# Altium footprint library ESP_helper.PcbLib: 16 footprints
Each footprint in its own frame and in the unit in brackets; x right, y up, seen from the top. Pads: shape width x height; smd on the part's side, far side on the other; paste and mask are expansions set on the pad; w line width, h text height; cw(c..) or ccw(c..) is an arc to the next point about the centre after c.
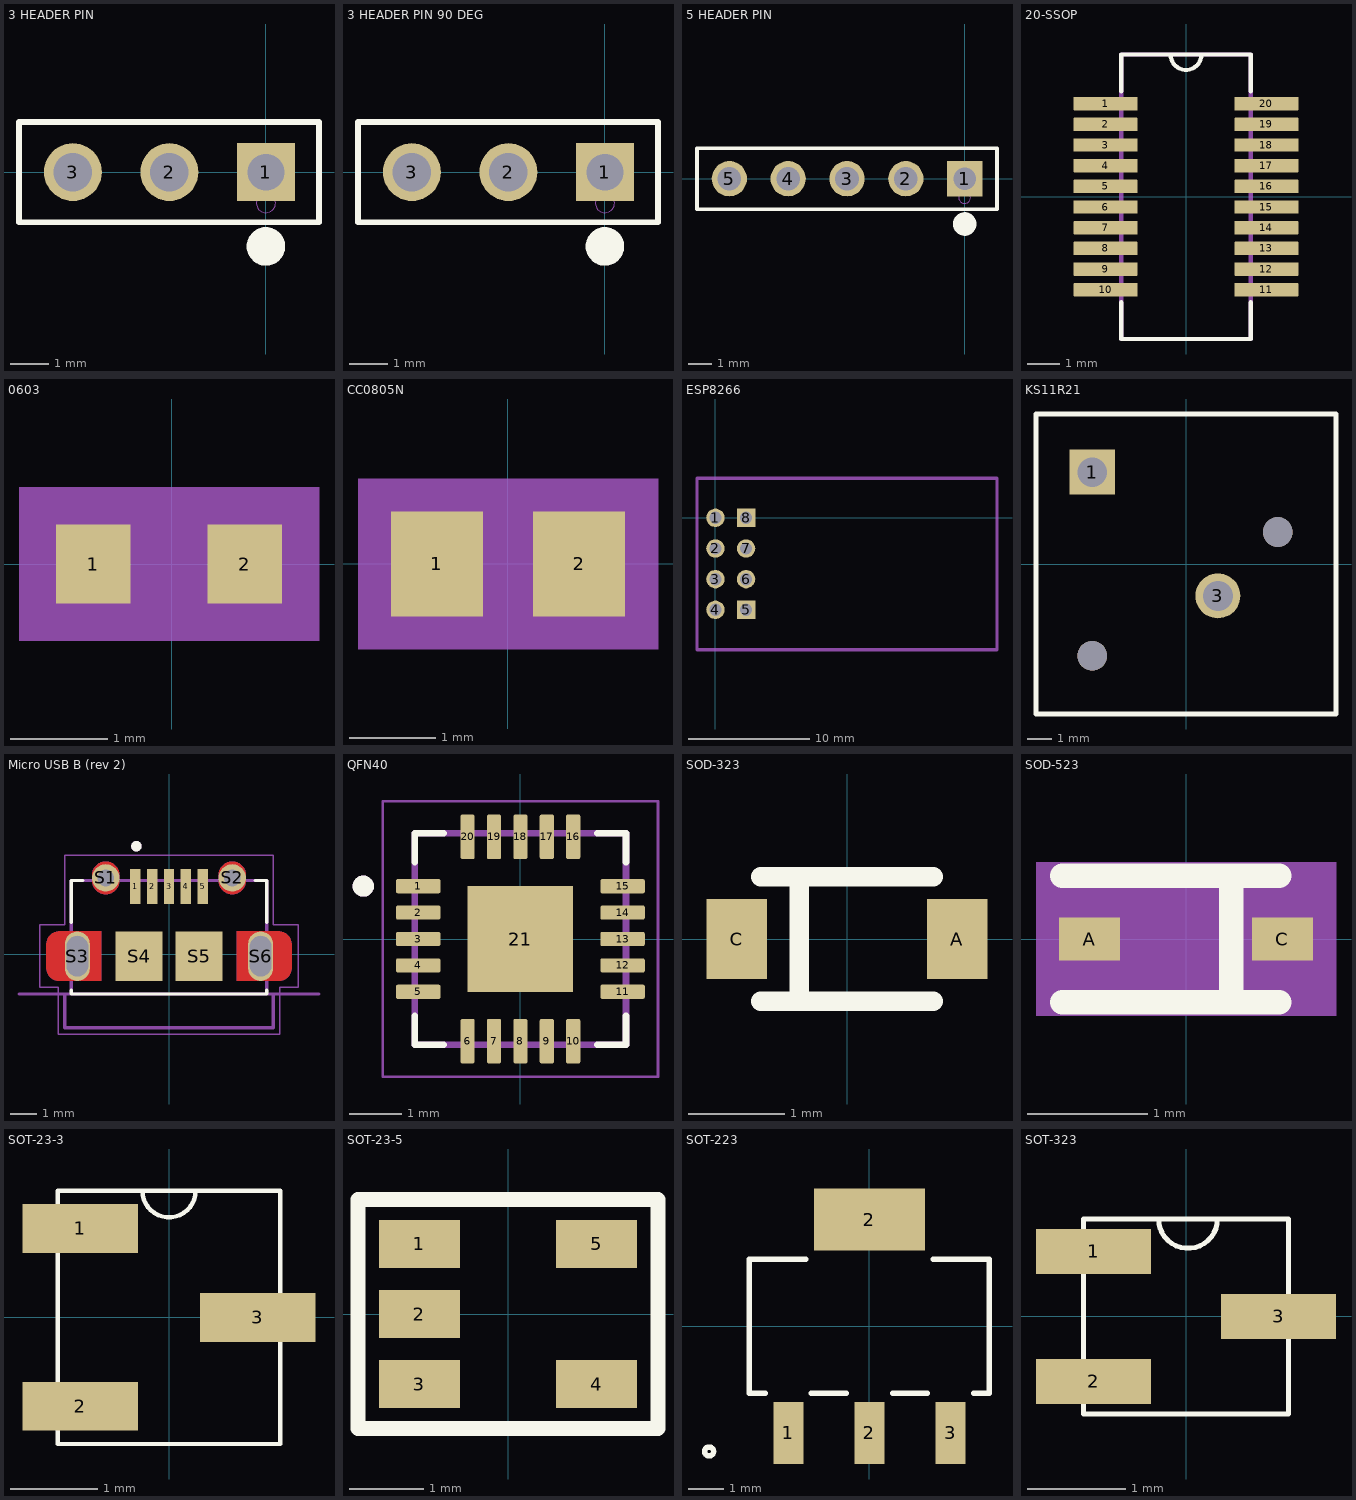
[diagram p0: the footprints below, top view; thin cyan lines are the x and y axes]

## 3 HEADER PIN [mil]
pads (3):
  rect 60x60 hole 38 mask+0: 1(0,0)
  round 60 hole 40 mask+0: 2(-100,0) 3(-200,0)
Top Overlay:
  circle w20: c0,-77 r10
  lines w6: -255.91,-52 -255.91,52 55,52 55,-52 -255.91,-52
Mechanical 13:
  circle w0: c0,-32 r10
3D body: height 10, standoff 0, extent 0,0 10,10
3D body "Pin Header 1x3 TH Pitch 2.54mm.stp": height 373.85, standoff -125.98, extent -250.01,-50.01 49.99,49.99

## 3 HEADER PIN 90 DEG [mil]
pads (3):
  rect 60x60 hole 38 mask+0: 1(0,0)
  round 60 hole 40 mask+0: 2(-100,0) 3(-200,0)
Top Overlay:
  circle w20: c0,-77 r10
  lines w6: -255.91,-52 -255.91,52 55,52 55,-52 -255.91,-52
Mechanical 13:
  circle w0: c0,-32 r10
3D body "90deg_header_pins_3x.STEP": height 162.6, standoff -240, extent -250,-160 50,49.21
3D body: height 10, standoff 0, extent 0,0 10,10

## 5 HEADER PIN [mil]
pads (5):
  rect 60x60 hole 38 mask+0: 1(0,0)
  round 60 hole 40 mask+0: 2(-100,0) 3(-200,0) 4(-300,0) 5(-400,0)
Top Overlay:
  circle w20: c0,-77 r10
  lines w6: -455,-52 55,-52 55,52 -455,52 -455,-52
Mechanical 13:
  circle w0: c0,-32 r10
3D body: height 10, standoff 0, extent 0,0 10,10
3D body "Pin Header 1x5 TH Pitch 2.54mm.stp": height 373.85, standoff -125.98, extent -450,-50.01 49.99,49.99

## 20-SSOP [mm]
pads (20):
  rrect10% 1.97x0.41 smd: 1(-2.47,2.857) 2(-2.47,2.222) 3(-2.47,1.587) 4(-2.47,0.953) 5(-2.47,0.318) 6(-2.47,-0.318) 7(-2.47,-0.953) 8(-2.47,-1.587) 9(-2.47,-2.222) 10(-2.47,-2.857) 11(2.47,-2.857) 12(2.47,-2.222) 13(2.47,-1.587) 14(2.47,-0.953) 15(2.47,-0.318) 16(2.47,0.318) 17(2.47,0.953) 18(2.47,1.587) 19(2.47,2.222) 20(2.47,2.857)
Top Overlay:
  lines w0.127: -1.99,-3.24 -1.99,-4.37 1.99,-4.37 1.99,-3.24 ; -1.99,3.24 -1.99,4.37 1.99,4.37 1.99,3.24 ; -0.475,4.37 ccw(c0,4.37) 0.475,4.37
Mechanical 13:
  lines w0.127: -1.99,-4.37 1.99,-4.37 1.99,4.37 -1.99,4.37 -1.99,-4.37
3D body "FT231XS-R_FTD.step": height 1.76, standoff 0, extent -3.099,-4.331 3.099,4.331

## 0603 [mil]
pads (2):
  rect 30x32 smd paste+0 mask+0: 1(-31.64,0) 2(29.36,0)
Mechanical 5:
  region: 59.36,-31 -61.64,-31 -61.64,31 59.36,31
3D body: height 10, standoff 0, extent -1.14,0 8.86,10
3D body "RC0603N_YAG.step": height 27.99, standoff 0, extent -32.63,-15.98 30.36,15.99

## CC0805N [mil]
pads (2):
  rect 42x48 smd: 1(-32.5,0) 2(32.5,0)
Mechanical 5:
  region: 68.5,-39 -68.5,-39 -68.5,39 68.5,39
Mechanical 13:
  lines w1: -39.5,-24 -39.5,24 ; -39.5,-24 -11.5,-24 -11.5,24 -39.5,24 ; -39.5,-24 39.5,-24 ; -39.5,-24 -39.5,24 ; -39.5,24 39.5,24 ; 39.5,-24 11.5,-24 11.5,24 39.5,24 ; 39.5,-24 39.5,24 ; 39.5,-24 39.5,24
3D body "CC0805N.step": height 27.99, standoff 0, extent -39.48,-24.01 39.5,24.02
3D body: height 10, standoff 0, extent 0,0 10,10

## ESP8266 [mil]
pads (8):
  round 60 hole 40: 1(0,0) 2(0,-100) 3(0,-200) 4(0,-300) 6(100,-200) 7(100,-100)
  rect 60x60 hole 40: 5(100,-300) 8(100,0)
Mechanical 1:
  lines w10: -60,-430.12 918.19,-430.12 918.19,128.98 -60,128.98 -60,-430.12
3D body "esp8266.STEP": height 221.5, standoff -228.35, extent -58.19,-435.87 918.19,135

## KS11R21 [mm]
pads (4):
  rect 1.85x1.85 hole 1.22: 1(-3.85,3.77)
  round 1.85 hole 1.22: 3(1.31,-1.31)
  round 1.22 hole 1.22 unplated: ""(-3.85,-3.77) ""(3.77,1.31)
Top Overlay:
  lines w0.2: -6.16,-6.16 6.16,-6.16 6.16,6.16 -6.16,6.16 -6.16,-6.16
3D body "KS11R22CQD.STEP": height 9.86, standoff -3.86, extent -6.074,-6.247 6.246,6.073

## Micro USB B (rev 2) [mm]
pads (11):
  rect 0.4x1.35 smd: 1(-1.3,2.6) 2(-0.65,2.6) 3(0,2.6) 4(0.65,2.6) 5(1.3,2.6)
  round 1.05 hole 0.65: S1(-2.425,2.925) S2(2.425,2.925)
  oval 0.95x1.9 hole 0.825 slot 1.55 at 90 deg: S3(-3.512,-0.075) S6(3.512,-0.075)
  rect 1.8x1.9 smd: S4(-1.15,-0.075) S5(1.15,-0.075)
Top Layer:
  region: 3.1,-0.075 2.6,-0.075 2.6,0.875 4.2,0.875 4.226,0.874 4.252,0.872 4.278,0.869 4.304,0.864 4.329,0.858 4.355,0.851 4.379,0.842 4.403,0.832 4.427,0.821 4.45,0.808 4.472,0.794 4.494,0.78 4.515,0.764 4.535,0.747 4.554,0.729 4.572,0.71 4.589,0.69 4.605,0.669 4.619,0.647 4.633,0.625 4.645,0.602 4.657,0.578 4.667,0.554 4.676,0.53 4.683,0.504 4.689,0.479 4.694,0.453 4.697,0.427 4.699,0.401 4.7,0.375 4.7,-0.075 3.925,-0.075 3.925,0.4 3.925,0.414 3.923,0.429 3.922,0.443 3.919,0.457 3.916,0.471 3.912,0.485 3.907,0.499 3.901,0.512 3.895,0.525 3.888,0.537 3.881,0.55 3.872,0.562 3.864,0.573 3.854,0.584 3.844,0.594 3.834,0.604 3.823,0.614 3.812,0.622 3.8,0.631 3.788,0.638 3.775,0.645 3.762,0.651 3.749,0.657 3.735,0.662 3.721,0.666 3.707,0.669 3.693,0.672 3.679,0.673 3.664,0.675 3.65,0.675 3.4,0.675 3.384,0.675 3.369,0.673 3.353,0.671 3.338,0.668 3.322,0.665 3.307,0.66 3.292,0.655 3.278,0.649 3.264,0.642 3.25,0.635 3.237,0.627 3.224,0.618 3.211,0.608 3.199,0.598 3.188,0.587 3.177,0.576 3.167,0.564 3.157,0.551 3.148,0.538 3.14,0.525 3.133,0.511 3.126,0.497 3.12,0.483 3.115,0.468 3.11,0.453 3.107,0.437 3.104,0.422 3.102,0.406 3.1,0.391 3.1,0.375
  region: -3.1,-0.075 -2.6,-0.075 -2.6,-1.025 -4.2,-1.025 -4.226,-1.024 -4.252,-1.022 -4.278,-1.019 -4.304,-1.014 -4.329,-1.008 -4.355,-1.001 -4.379,-0.992 -4.403,-0.982 -4.427,-0.971 -4.45,-0.958 -4.472,-0.944 -4.494,-0.93 -4.515,-0.914 -4.535,-0.897 -4.554,-0.879 -4.572,-0.86 -4.589,-0.84 -4.605,-0.819 -4.619,-0.797 -4.633,-0.775 -4.645,-0.752 -4.657,-0.728 -4.667,-0.704 -4.676,-0.68 -4.683,-0.654 -4.689,-0.629 -4.694,-0.603 -4.697,-0.577 -4.699,-0.551 -4.7,-0.525 -4.7,-0.075 -3.925,-0.075 -3.925,-0.55 -3.925,-0.564 -3.923,-0.579 -3.922,-0.593 -3.919,-0.607 -3.916,-0.621 -3.912,-0.635 -3.907,-0.649 -3.901,-0.662 -3.895,-0.675 -3.888,-0.687 -3.881,-0.7 -3.872,-0.712 -3.864,-0.723 -3.854,-0.734 -3.844,-0.744 -3.834,-0.754 -3.823,-0.764 -3.812,-0.772 -3.8,-0.781 -3.788,-0.788 -3.775,-0.795 -3.762,-0.801 -3.749,-0.807 -3.735,-0.812 -3.721,-0.816 -3.707,-0.819 -3.693,-0.822 -3.679,-0.823 -3.664,-0.825 -3.65,-0.825 -3.4,-0.825 -3.384,-0.825 -3.369,-0.823 -3.353,-0.821 -3.338,-0.818 -3.322,-0.815 -3.307,-0.81 -3.292,-0.805 -3.278,-0.799 -3.264,-0.792 -3.25,-0.785 -3.237,-0.777 -3.224,-0.768 -3.211,-0.758 -3.199,-0.748 -3.188,-0.737 -3.177,-0.726 -3.167,-0.714 -3.157,-0.701 -3.148,-0.688 -3.14,-0.675 -3.133,-0.661 -3.126,-0.647 -3.12,-0.633 -3.115,-0.618 -3.11,-0.603 -3.107,-0.587 -3.104,-0.572 -3.102,-0.556 -3.1,-0.541 -3.1,-0.525
  region: 2.6,-1.025 4.2,-1.025 4.226,-1.024 4.252,-1.022 4.278,-1.019 4.304,-1.014 4.329,-1.008 4.355,-1.001 4.379,-0.992 4.403,-0.982 4.427,-0.971 4.45,-0.958 4.472,-0.944 4.494,-0.93 4.515,-0.914 4.535,-0.897 4.554,-0.879 4.572,-0.86 4.589,-0.84 4.605,-0.819 4.619,-0.797 4.633,-0.775 4.645,-0.752 4.657,-0.728 4.667,-0.704 4.676,-0.68 4.683,-0.654 4.689,-0.629 4.694,-0.603 4.697,-0.577 4.699,-0.551 4.7,-0.525 4.7,-0.075 3.925,-0.075 3.925,-0.525 3.925,-0.541 3.923,-0.556 3.921,-0.572 3.918,-0.587 3.915,-0.603 3.91,-0.618 3.905,-0.633 3.899,-0.647 3.892,-0.661 3.885,-0.675 3.877,-0.688 3.868,-0.701 3.858,-0.714 3.848,-0.726 3.837,-0.737 3.826,-0.748 3.814,-0.758 3.801,-0.768 3.788,-0.777 3.775,-0.785 3.761,-0.792 3.747,-0.799 3.733,-0.805 3.718,-0.81 3.703,-0.815 3.687,-0.818 3.672,-0.821 3.656,-0.823 3.641,-0.825 3.625,-0.825 3.4,-0.825 3.384,-0.825 3.369,-0.823 3.353,-0.821 3.338,-0.818 3.322,-0.815 3.307,-0.81 3.292,-0.805 3.278,-0.799 3.264,-0.792 3.25,-0.785 3.237,-0.777 3.224,-0.768 3.211,-0.758 3.199,-0.748 3.188,-0.737 3.177,-0.726 3.167,-0.714 3.157,-0.701 3.148,-0.688 3.14,-0.675 3.133,-0.661 3.126,-0.647 3.12,-0.633 3.115,-0.618 3.11,-0.603 3.107,-0.587 3.104,-0.572 3.102,-0.556 3.1,-0.541 3.1,-0.525 3.1,-0.075 2.6,-0.075
  region: -2.6,0.875 -4.2,0.875 -4.226,0.874 -4.252,0.872 -4.278,0.869 -4.304,0.864 -4.329,0.858 -4.355,0.851 -4.379,0.842 -4.403,0.832 -4.427,0.821 -4.45,0.808 -4.472,0.794 -4.494,0.78 -4.515,0.764 -4.535,0.747 -4.554,0.729 -4.572,0.71 -4.589,0.69 -4.605,0.669 -4.619,0.647 -4.633,0.625 -4.645,0.602 -4.657,0.578 -4.667,0.554 -4.676,0.53 -4.683,0.504 -4.689,0.479 -4.694,0.453 -4.697,0.427 -4.699,0.401 -4.7,0.375 -4.7,-0.075 -3.925,-0.075 -3.925,0.375 -3.925,0.391 -3.923,0.406 -3.921,0.422 -3.918,0.437 -3.915,0.453 -3.91,0.468 -3.905,0.483 -3.899,0.497 -3.892,0.511 -3.885,0.525 -3.877,0.538 -3.868,0.551 -3.858,0.564 -3.848,0.576 -3.837,0.587 -3.826,0.598 -3.814,0.608 -3.801,0.618 -3.788,0.627 -3.775,0.635 -3.761,0.642 -3.747,0.649 -3.733,0.655 -3.718,0.66 -3.703,0.665 -3.687,0.668 -3.672,0.671 -3.656,0.673 -3.641,0.675 -3.625,0.675 -3.4,0.675 -3.384,0.675 -3.369,0.673 -3.353,0.671 -3.338,0.668 -3.322,0.665 -3.307,0.66 -3.292,0.655 -3.278,0.649 -3.264,0.642 -3.25,0.635 -3.237,0.627 -3.224,0.618 -3.211,0.608 -3.199,0.598 -3.188,0.587 -3.177,0.576 -3.167,0.564 -3.157,0.551 -3.148,0.538 -3.14,0.525 -3.133,0.511 -3.126,0.497 -3.12,0.483 -3.115,0.468 -3.11,0.453 -3.107,0.437 -3.104,0.422 -3.102,0.406 -3.1,0.391 -3.1,0.375 -3.1,-0.075 -2.6,-0.075
  region: 2.425,2.5 2.425,2.3 2.398,2.301 2.37,2.303 2.343,2.306 2.316,2.311 2.289,2.318 2.263,2.326 2.237,2.335 2.211,2.345 2.187,2.357 2.163,2.37 2.139,2.385 2.116,2.4 2.095,2.417 2.074,2.435 2.054,2.454 2.035,2.474 2.017,2.495 2,2.516 1.985,2.539 1.97,2.562 1.957,2.587 1.945,2.611 1.935,2.637 1.926,2.663 1.918,2.689 1.911,2.716 1.906,2.743 1.903,2.77 1.901,2.798 1.9,2.825 1.9,3.025 1.901,3.052 1.903,3.08 1.906,3.107 1.911,3.134 1.918,3.161 1.926,3.187 1.935,3.213 1.945,3.239 1.957,3.263 1.97,3.287 1.985,3.311 2,3.334 2.017,3.355 2.035,3.376 2.054,3.396 2.074,3.415 2.095,3.433 2.116,3.45 2.139,3.465 2.163,3.48 2.187,3.493 2.211,3.505 2.237,3.515 2.263,3.524 2.289,3.532 2.316,3.539 2.343,3.544 2.37,3.547 2.398,3.549 2.425,3.55 2.425,3.35 2.408,3.35 2.391,3.348 2.374,3.346 2.357,3.343 2.341,3.339 2.325,3.334 2.309,3.328 2.293,3.322 2.277,3.315 2.262,3.306 2.248,3.298 2.234,3.288 2.22,3.278 2.208,3.267 2.195,3.255 2.183,3.242 2.172,3.23 2.162,3.216 2.152,3.202 2.144,3.187 2.135,3.173 2.128,3.157 2.122,3.141 2.116,3.125 2.111,3.109 2.107,3.093 2.104,3.076 2.102,3.059 2.1,3.042 2.1,3.025 2.1,2.825 2.1,2.808 2.102,2.791 2.104,2.774 2.107,2.757 2.111,2.741 2.116,2.725 2.122,2.709 2.128,2.693 2.135,2.677 2.144,2.662 2.152,2.648 2.162,2.634 2.172,2.62 2.183,2.608 2.195,2.595 2.208,2.583 2.22,2.572 2.234,2.562 2.248,2.552 2.262,2.544 2.277,2.535 2.293,2.528 2.309,2.522 2.325,2.516 2.341,2.511 2.357,2.507 2.374,2.504 2.391,2.502 2.408,2.5
  region: 2.425,3.35 2.425,3.55 2.452,3.549 2.48,3.547 2.507,3.544 2.534,3.539 2.561,3.532 2.587,3.524 2.613,3.515 2.639,3.505 2.663,3.493 2.688,3.48 2.711,3.465 2.734,3.45 2.755,3.433 2.776,3.415 2.796,3.396 2.815,3.376 2.833,3.355 2.85,3.334 2.865,3.311 2.88,3.287 2.893,3.263 2.905,3.239 2.915,3.213 2.924,3.187 2.932,3.161 2.939,3.134 2.944,3.107 2.947,3.08 2.949,3.052 2.95,3.025 2.95,2.825 2.949,2.798 2.947,2.77 2.944,2.743 2.939,2.716 2.932,2.689 2.924,2.663 2.915,2.637 2.905,2.611 2.893,2.587 2.88,2.562 2.865,2.539 2.85,2.516 2.833,2.495 2.815,2.474 2.796,2.454 2.776,2.435 2.755,2.417 2.734,2.4 2.711,2.385 2.688,2.37 2.663,2.357 2.639,2.345 2.613,2.335 2.587,2.326 2.561,2.318 2.534,2.311 2.507,2.306 2.48,2.303 2.452,2.301 2.425,2.3 2.425,2.5 2.442,2.5 2.459,2.502 2.476,2.504 2.493,2.507 2.509,2.511 2.525,2.516 2.541,2.522 2.557,2.528 2.573,2.535 2.588,2.544 2.602,2.552 2.616,2.562 2.63,2.572 2.642,2.583 2.655,2.595 2.667,2.608 2.678,2.62 2.688,2.634 2.698,2.648 2.706,2.662 2.715,2.677 2.722,2.693 2.728,2.709 2.734,2.725 2.739,2.741 2.743,2.757 2.746,2.774 2.748,2.791 2.75,2.808 2.75,2.825 2.75,3.025 2.75,3.042 2.748,3.059 2.746,3.076 2.743,3.093 2.739,3.109 2.734,3.125 2.728,3.141 2.722,3.157 2.715,3.173 2.706,3.187 2.698,3.202 2.688,3.216 2.678,3.23 2.667,3.242 2.655,3.255 2.642,3.267 2.63,3.278 2.616,3.288 2.602,3.298 2.588,3.306 2.573,3.315 2.557,3.322 2.541,3.328 2.525,3.334 2.509,3.339 2.493,3.343 2.476,3.346 2.459,3.348 2.442,3.35
  region: -2.425,2.5 -2.425,2.3 -2.452,2.301 -2.48,2.303 -2.507,2.306 -2.534,2.311 -2.561,2.318 -2.587,2.326 -2.613,2.335 -2.639,2.345 -2.663,2.357 -2.688,2.37 -2.711,2.385 -2.734,2.4 -2.755,2.417 -2.776,2.435 -2.796,2.454 -2.815,2.474 -2.833,2.495 -2.85,2.516 -2.865,2.539 -2.88,2.562 -2.893,2.587 -2.905,2.611 -2.915,2.637 -2.924,2.663 -2.932,2.689 -2.939,2.716 -2.944,2.743 -2.947,2.77 -2.949,2.798 -2.95,2.825 -2.95,3.025 -2.949,3.052 -2.947,3.08 -2.944,3.107 -2.939,3.134 -2.932,3.161 -2.924,3.187 -2.915,3.213 -2.905,3.239 -2.893,3.263 -2.88,3.287 -2.865,3.311 -2.85,3.334 -2.833,3.355 -2.815,3.376 -2.796,3.396 -2.776,3.415 -2.755,3.433 -2.734,3.45 -2.711,3.465 -2.688,3.48 -2.663,3.493 -2.639,3.505 -2.613,3.515 -2.587,3.524 -2.561,3.532 -2.534,3.539 -2.507,3.544 -2.48,3.547 -2.452,3.549 -2.425,3.55 -2.425,3.35 -2.442,3.35 -2.459,3.348 -2.476,3.346 -2.493,3.343 -2.509,3.339 -2.525,3.334 -2.541,3.328 -2.557,3.322 -2.573,3.315 -2.588,3.306 -2.602,3.298 -2.616,3.288 -2.63,3.278 -2.642,3.267 -2.655,3.255 -2.667,3.242 -2.678,3.23 -2.688,3.216 -2.698,3.202 -2.706,3.187 -2.715,3.173 -2.722,3.157 -2.728,3.141 -2.734,3.125 -2.739,3.109 -2.743,3.093 -2.746,3.076 -2.748,3.059 -2.75,3.042 -2.75,3.025 -2.75,2.825 -2.75,2.808 -2.748,2.791 -2.746,2.774 -2.743,2.757 -2.739,2.741 -2.734,2.725 -2.728,2.709 -2.722,2.693 -2.715,2.677 -2.706,2.662 -2.698,2.648 -2.688,2.634 -2.678,2.62 -2.667,2.608 -2.655,2.595 -2.642,2.583 -2.63,2.572 -2.616,2.562 -2.602,2.552 -2.588,2.544 -2.573,2.535 -2.557,2.528 -2.541,2.522 -2.525,2.516 -2.509,2.511 -2.493,2.507 -2.476,2.504 -2.459,2.502 -2.442,2.5
  region: -2.425,3.35 -2.425,3.55 -2.398,3.549 -2.37,3.547 -2.343,3.544 -2.316,3.539 -2.289,3.532 -2.263,3.524 -2.237,3.515 -2.211,3.505 -2.187,3.493 -2.163,3.48 -2.139,3.465 -2.116,3.45 -2.095,3.433 -2.074,3.415 -2.054,3.396 -2.035,3.376 -2.017,3.355 -2,3.334 -1.985,3.311 -1.97,3.287 -1.957,3.263 -1.945,3.239 -1.935,3.213 -1.926,3.187 -1.918,3.161 -1.911,3.134 -1.906,3.107 -1.903,3.08 -1.901,3.052 -1.9,3.025 -1.9,2.825 -1.901,2.798 -1.903,2.77 -1.906,2.743 -1.911,2.716 -1.918,2.689 -1.926,2.663 -1.935,2.637 -1.945,2.611 -1.957,2.587 -1.97,2.562 -1.985,2.539 -2,2.516 -2.017,2.495 -2.035,2.474 -2.054,2.454 -2.074,2.435 -2.095,2.417 -2.116,2.4 -2.139,2.385 -2.163,2.37 -2.187,2.357 -2.211,2.345 -2.237,2.335 -2.263,2.326 -2.289,2.318 -2.316,2.311 -2.343,2.306 -2.37,2.303 -2.398,2.301 -2.425,2.3 -2.425,2.5 -2.408,2.5 -2.391,2.502 -2.374,2.504 -2.357,2.507 -2.341,2.511 -2.325,2.516 -2.309,2.522 -2.293,2.528 -2.277,2.535 -2.262,2.544 -2.248,2.552 -2.234,2.562 -2.22,2.572 -2.208,2.583 -2.195,2.595 -2.183,2.608 -2.172,2.62 -2.162,2.634 -2.152,2.648 -2.144,2.662 -2.135,2.677 -2.128,2.693 -2.122,2.709 -2.116,2.725 -2.111,2.741 -2.107,2.757 -2.104,2.774 -2.102,2.791 -2.1,2.808 -2.1,2.825 -2.1,3.025 -2.1,3.042 -2.102,3.059 -2.104,3.076 -2.107,3.093 -2.111,3.109 -2.116,3.125 -2.122,3.141 -2.128,3.157 -2.135,3.173 -2.144,3.187 -2.152,3.202 -2.162,3.216 -2.172,3.23 -2.183,3.242 -2.195,3.255 -2.208,3.267 -2.22,3.278 -2.234,3.288 -2.248,3.298 -2.262,3.306 -2.277,3.315 -2.293,3.322 -2.309,3.328 -2.325,3.334 -2.341,3.339 -2.357,3.343 -2.374,3.346 -2.391,3.348 -2.408,3.35
Bottom Layer:
  region: 3.1,-0.075 2.6,-0.075 2.6,0.875 4.2,0.875 4.226,0.874 4.252,0.872 4.278,0.869 4.304,0.864 4.329,0.858 4.355,0.851 4.379,0.842 4.403,0.832 4.427,0.821 4.45,0.808 4.472,0.794 4.494,0.78 4.515,0.764 4.535,0.747 4.554,0.729 4.572,0.71 4.589,0.69 4.605,0.669 4.619,0.647 4.633,0.625 4.645,0.602 4.657,0.578 4.667,0.554 4.676,0.53 4.683,0.504 4.689,0.479 4.694,0.453 4.697,0.427 4.699,0.401 4.7,0.375 4.7,-0.075 3.925,-0.075 3.925,0.4 3.925,0.414 3.923,0.429 3.922,0.443 3.919,0.457 3.916,0.471 3.912,0.485 3.907,0.499 3.901,0.512 3.895,0.525 3.888,0.537 3.881,0.55 3.872,0.562 3.864,0.573 3.854,0.584 3.844,0.594 3.834,0.604 3.823,0.614 3.812,0.622 3.8,0.631 3.788,0.638 3.775,0.645 3.762,0.651 3.749,0.657 3.735,0.662 3.721,0.666 3.707,0.669 3.693,0.672 3.679,0.673 3.664,0.675 3.65,0.675 3.4,0.675 3.384,0.675 3.369,0.673 3.353,0.671 3.338,0.668 3.322,0.665 3.307,0.66 3.292,0.655 3.278,0.649 3.264,0.642 3.25,0.635 3.237,0.627 3.224,0.618 3.211,0.608 3.199,0.598 3.188,0.587 3.177,0.576 3.167,0.564 3.157,0.551 3.148,0.538 3.14,0.525 3.133,0.511 3.126,0.497 3.12,0.483 3.115,0.468 3.11,0.453 3.107,0.437 3.104,0.422 3.102,0.406 3.1,0.391 3.1,0.375
  region: -3.1,-0.075 -2.6,-0.075 -2.6,-1.025 -4.2,-1.025 -4.226,-1.024 -4.252,-1.022 -4.278,-1.019 -4.304,-1.014 -4.329,-1.008 -4.355,-1.001 -4.379,-0.992 -4.403,-0.982 -4.427,-0.971 -4.45,-0.958 -4.472,-0.944 -4.494,-0.93 -4.515,-0.914 -4.535,-0.897 -4.554,-0.879 -4.572,-0.86 -4.589,-0.84 -4.605,-0.819 -4.619,-0.797 -4.633,-0.775 -4.645,-0.752 -4.657,-0.728 -4.667,-0.704 -4.676,-0.68 -4.683,-0.654 -4.689,-0.629 -4.694,-0.603 -4.697,-0.577 -4.699,-0.551 -4.7,-0.525 -4.7,-0.075 -3.925,-0.075 -3.925,-0.55 -3.925,-0.564 -3.923,-0.579 -3.922,-0.593 -3.919,-0.607 -3.916,-0.621 -3.912,-0.635 -3.907,-0.649 -3.901,-0.662 -3.895,-0.675 -3.888,-0.687 -3.881,-0.7 -3.872,-0.712 -3.864,-0.723 -3.854,-0.734 -3.844,-0.744 -3.834,-0.754 -3.823,-0.764 -3.812,-0.772 -3.8,-0.781 -3.788,-0.788 -3.775,-0.795 -3.762,-0.801 -3.749,-0.807 -3.735,-0.812 -3.721,-0.816 -3.707,-0.819 -3.693,-0.822 -3.679,-0.823 -3.664,-0.825 -3.65,-0.825 -3.4,-0.825 -3.384,-0.825 -3.369,-0.823 -3.353,-0.821 -3.338,-0.818 -3.322,-0.815 -3.307,-0.81 -3.292,-0.805 -3.278,-0.799 -3.264,-0.792 -3.25,-0.785 -3.237,-0.777 -3.224,-0.768 -3.211,-0.758 -3.199,-0.748 -3.188,-0.737 -3.177,-0.726 -3.167,-0.714 -3.157,-0.701 -3.148,-0.688 -3.14,-0.675 -3.133,-0.661 -3.126,-0.647 -3.12,-0.633 -3.115,-0.618 -3.11,-0.603 -3.107,-0.587 -3.104,-0.572 -3.102,-0.556 -3.1,-0.541 -3.1,-0.525
  region: 2.6,-1.025 4.2,-1.025 4.226,-1.024 4.252,-1.022 4.278,-1.019 4.304,-1.014 4.329,-1.008 4.355,-1.001 4.379,-0.992 4.403,-0.982 4.427,-0.971 4.45,-0.958 4.472,-0.944 4.494,-0.93 4.515,-0.914 4.535,-0.897 4.554,-0.879 4.572,-0.86 4.589,-0.84 4.605,-0.819 4.619,-0.797 4.633,-0.775 4.645,-0.752 4.657,-0.728 4.667,-0.704 4.676,-0.68 4.683,-0.654 4.689,-0.629 4.694,-0.603 4.697,-0.577 4.699,-0.551 4.7,-0.525 4.7,-0.075 3.925,-0.075 3.925,-0.525 3.925,-0.541 3.923,-0.556 3.921,-0.572 3.918,-0.587 3.915,-0.603 3.91,-0.618 3.905,-0.633 3.899,-0.647 3.892,-0.661 3.885,-0.675 3.877,-0.688 3.868,-0.701 3.858,-0.714 3.848,-0.726 3.837,-0.737 3.826,-0.748 3.814,-0.758 3.801,-0.768 3.788,-0.777 3.775,-0.785 3.761,-0.792 3.747,-0.799 3.733,-0.805 3.718,-0.81 3.703,-0.815 3.687,-0.818 3.672,-0.821 3.656,-0.823 3.641,-0.825 3.625,-0.825 3.4,-0.825 3.384,-0.825 3.369,-0.823 3.353,-0.821 3.338,-0.818 3.322,-0.815 3.307,-0.81 3.292,-0.805 3.278,-0.799 3.264,-0.792 3.25,-0.785 3.237,-0.777 3.224,-0.768 3.211,-0.758 3.199,-0.748 3.188,-0.737 3.177,-0.726 3.167,-0.714 3.157,-0.701 3.148,-0.688 3.14,-0.675 3.133,-0.661 3.126,-0.647 3.12,-0.633 3.115,-0.618 3.11,-0.603 3.107,-0.587 3.104,-0.572 3.102,-0.556 3.1,-0.541 3.1,-0.525 3.1,-0.075 2.6,-0.075
  region: -2.6,0.875 -4.2,0.875 -4.226,0.874 -4.252,0.872 -4.278,0.869 -4.304,0.864 -4.329,0.858 -4.355,0.851 -4.379,0.842 -4.403,0.832 -4.427,0.821 -4.45,0.808 -4.472,0.794 -4.494,0.78 -4.515,0.764 -4.535,0.747 -4.554,0.729 -4.572,0.71 -4.589,0.69 -4.605,0.669 -4.619,0.647 -4.633,0.625 -4.645,0.602 -4.657,0.578 -4.667,0.554 -4.676,0.53 -4.683,0.504 -4.689,0.479 -4.694,0.453 -4.697,0.427 -4.699,0.401 -4.7,0.375 -4.7,-0.075 -3.925,-0.075 -3.925,0.375 -3.925,0.391 -3.923,0.406 -3.921,0.422 -3.918,0.437 -3.915,0.453 -3.91,0.468 -3.905,0.483 -3.899,0.497 -3.892,0.511 -3.885,0.525 -3.877,0.538 -3.868,0.551 -3.858,0.564 -3.848,0.576 -3.837,0.587 -3.826,0.598 -3.814,0.608 -3.801,0.618 -3.788,0.627 -3.775,0.635 -3.761,0.642 -3.747,0.649 -3.733,0.655 -3.718,0.66 -3.703,0.665 -3.687,0.668 -3.672,0.671 -3.656,0.673 -3.641,0.675 -3.625,0.675 -3.4,0.675 -3.384,0.675 -3.369,0.673 -3.353,0.671 -3.338,0.668 -3.322,0.665 -3.307,0.66 -3.292,0.655 -3.278,0.649 -3.264,0.642 -3.25,0.635 -3.237,0.627 -3.224,0.618 -3.211,0.608 -3.199,0.598 -3.188,0.587 -3.177,0.576 -3.167,0.564 -3.157,0.551 -3.148,0.538 -3.14,0.525 -3.133,0.511 -3.126,0.497 -3.12,0.483 -3.115,0.468 -3.11,0.453 -3.107,0.437 -3.104,0.422 -3.102,0.406 -3.1,0.391 -3.1,0.375 -3.1,-0.075 -2.6,-0.075
  region: 2.425,2.5 2.425,2.3 2.398,2.301 2.37,2.303 2.343,2.306 2.316,2.311 2.289,2.318 2.263,2.326 2.237,2.335 2.211,2.345 2.187,2.357 2.163,2.37 2.139,2.385 2.116,2.4 2.095,2.417 2.074,2.435 2.054,2.454 2.035,2.474 2.017,2.495 2,2.516 1.985,2.539 1.97,2.562 1.957,2.587 1.945,2.611 1.935,2.637 1.926,2.663 1.918,2.689 1.911,2.716 1.906,2.743 1.903,2.77 1.901,2.798 1.9,2.825 1.9,3.025 1.901,3.052 1.903,3.08 1.906,3.107 1.911,3.134 1.918,3.161 1.926,3.187 1.935,3.213 1.945,3.239 1.957,3.263 1.97,3.287 1.985,3.311 2,3.334 2.017,3.355 2.035,3.376 2.054,3.396 2.074,3.415 2.095,3.433 2.116,3.45 2.139,3.465 2.163,3.48 2.187,3.493 2.211,3.505 2.237,3.515 2.263,3.524 2.289,3.532 2.316,3.539 2.343,3.544 2.37,3.547 2.398,3.549 2.425,3.55 2.425,3.35 2.408,3.35 2.391,3.348 2.374,3.346 2.357,3.343 2.341,3.339 2.325,3.334 2.309,3.328 2.293,3.322 2.277,3.315 2.262,3.306 2.248,3.298 2.234,3.288 2.22,3.278 2.208,3.267 2.195,3.255 2.183,3.242 2.172,3.23 2.162,3.216 2.152,3.202 2.144,3.187 2.135,3.173 2.128,3.157 2.122,3.141 2.116,3.125 2.111,3.109 2.107,3.093 2.104,3.076 2.102,3.059 2.1,3.042 2.1,3.025 2.1,2.825 2.1,2.808 2.102,2.791 2.104,2.774 2.107,2.757 2.111,2.741 2.116,2.725 2.122,2.709 2.128,2.693 2.135,2.677 2.144,2.662 2.152,2.648 2.162,2.634 2.172,2.62 2.183,2.608 2.195,2.595 2.208,2.583 2.22,2.572 2.234,2.562 2.248,2.552 2.262,2.544 2.277,2.535 2.293,2.528 2.309,2.522 2.325,2.516 2.341,2.511 2.357,2.507 2.374,2.504 2.391,2.502 2.408,2.5
  region: 2.425,3.35 2.425,3.55 2.452,3.549 2.48,3.547 2.507,3.544 2.534,3.539 2.561,3.532 2.587,3.524 2.613,3.515 2.639,3.505 2.663,3.493 2.688,3.48 2.711,3.465 2.734,3.45 2.755,3.433 2.776,3.415 2.796,3.396 2.815,3.376 2.833,3.355 2.85,3.334 2.865,3.311 2.88,3.287 2.893,3.263 2.905,3.239 2.915,3.213 2.924,3.187 2.932,3.161 2.939,3.134 2.944,3.107 2.947,3.08 2.949,3.052 2.95,3.025 2.95,2.825 2.949,2.798 2.947,2.77 2.944,2.743 2.939,2.716 2.932,2.689 2.924,2.663 2.915,2.637 2.905,2.611 2.893,2.587 2.88,2.562 2.865,2.539 2.85,2.516 2.833,2.495 2.815,2.474 2.796,2.454 2.776,2.435 2.755,2.417 2.734,2.4 2.711,2.385 2.688,2.37 2.663,2.357 2.639,2.345 2.613,2.335 2.587,2.326 2.561,2.318 2.534,2.311 2.507,2.306 2.48,2.303 2.452,2.301 2.425,2.3 2.425,2.5 2.442,2.5 2.459,2.502 2.476,2.504 2.493,2.507 2.509,2.511 2.525,2.516 2.541,2.522 2.557,2.528 2.573,2.535 2.588,2.544 2.602,2.552 2.616,2.562 2.63,2.572 2.642,2.583 2.655,2.595 2.667,2.608 2.678,2.62 2.688,2.634 2.698,2.648 2.706,2.662 2.715,2.677 2.722,2.693 2.728,2.709 2.734,2.725 2.739,2.741 2.743,2.757 2.746,2.774 2.748,2.791 2.75,2.808 2.75,2.825 2.75,3.025 2.75,3.042 2.748,3.059 2.746,3.076 2.743,3.093 2.739,3.109 2.734,3.125 2.728,3.141 2.722,3.157 2.715,3.173 2.706,3.187 2.698,3.202 2.688,3.216 2.678,3.23 2.667,3.242 2.655,3.255 2.642,3.267 2.63,3.278 2.616,3.288 2.602,3.298 2.588,3.306 2.573,3.315 2.557,3.322 2.541,3.328 2.525,3.334 2.509,3.339 2.493,3.343 2.476,3.346 2.459,3.348 2.442,3.35
  region: -2.425,2.5 -2.425,2.3 -2.452,2.301 -2.48,2.303 -2.507,2.306 -2.534,2.311 -2.561,2.318 -2.587,2.326 -2.613,2.335 -2.639,2.345 -2.663,2.357 -2.688,2.37 -2.711,2.385 -2.734,2.4 -2.755,2.417 -2.776,2.435 -2.796,2.454 -2.815,2.474 -2.833,2.495 -2.85,2.516 -2.865,2.539 -2.88,2.562 -2.893,2.587 -2.905,2.611 -2.915,2.637 -2.924,2.663 -2.932,2.689 -2.939,2.716 -2.944,2.743 -2.947,2.77 -2.949,2.798 -2.95,2.825 -2.95,3.025 -2.949,3.052 -2.947,3.08 -2.944,3.107 -2.939,3.134 -2.932,3.161 -2.924,3.187 -2.915,3.213 -2.905,3.239 -2.893,3.263 -2.88,3.287 -2.865,3.311 -2.85,3.334 -2.833,3.355 -2.815,3.376 -2.796,3.396 -2.776,3.415 -2.755,3.433 -2.734,3.45 -2.711,3.465 -2.688,3.48 -2.663,3.493 -2.639,3.505 -2.613,3.515 -2.587,3.524 -2.561,3.532 -2.534,3.539 -2.507,3.544 -2.48,3.547 -2.452,3.549 -2.425,3.55 -2.425,3.35 -2.442,3.35 -2.459,3.348 -2.476,3.346 -2.493,3.343 -2.509,3.339 -2.525,3.334 -2.541,3.328 -2.557,3.322 -2.573,3.315 -2.588,3.306 -2.602,3.298 -2.616,3.288 -2.63,3.278 -2.642,3.267 -2.655,3.255 -2.667,3.242 -2.678,3.23 -2.688,3.216 -2.698,3.202 -2.706,3.187 -2.715,3.173 -2.722,3.157 -2.728,3.141 -2.734,3.125 -2.739,3.109 -2.743,3.093 -2.746,3.076 -2.748,3.059 -2.75,3.042 -2.75,3.025 -2.75,2.825 -2.75,2.808 -2.748,2.791 -2.746,2.774 -2.743,2.757 -2.739,2.741 -2.734,2.725 -2.728,2.709 -2.722,2.693 -2.715,2.677 -2.706,2.662 -2.698,2.648 -2.688,2.634 -2.678,2.62 -2.667,2.608 -2.655,2.595 -2.642,2.583 -2.63,2.572 -2.616,2.562 -2.602,2.552 -2.588,2.544 -2.573,2.535 -2.557,2.528 -2.541,2.522 -2.525,2.516 -2.509,2.511 -2.493,2.507 -2.476,2.504 -2.459,2.502 -2.442,2.5
  region: -2.425,3.35 -2.425,3.55 -2.398,3.549 -2.37,3.547 -2.343,3.544 -2.316,3.539 -2.289,3.532 -2.263,3.524 -2.237,3.515 -2.211,3.505 -2.187,3.493 -2.163,3.48 -2.139,3.465 -2.116,3.45 -2.095,3.433 -2.074,3.415 -2.054,3.396 -2.035,3.376 -2.017,3.355 -2,3.334 -1.985,3.311 -1.97,3.287 -1.957,3.263 -1.945,3.239 -1.935,3.213 -1.926,3.187 -1.918,3.161 -1.911,3.134 -1.906,3.107 -1.903,3.08 -1.901,3.052 -1.9,3.025 -1.9,2.825 -1.901,2.798 -1.903,2.77 -1.906,2.743 -1.911,2.716 -1.918,2.689 -1.926,2.663 -1.935,2.637 -1.945,2.611 -1.957,2.587 -1.97,2.562 -1.985,2.539 -2,2.516 -2.017,2.495 -2.035,2.474 -2.054,2.454 -2.074,2.435 -2.095,2.417 -2.116,2.4 -2.139,2.385 -2.163,2.37 -2.187,2.357 -2.211,2.345 -2.237,2.335 -2.263,2.326 -2.289,2.318 -2.316,2.311 -2.343,2.306 -2.37,2.303 -2.398,2.301 -2.425,2.3 -2.425,2.5 -2.408,2.5 -2.391,2.502 -2.374,2.504 -2.357,2.507 -2.341,2.511 -2.325,2.516 -2.309,2.522 -2.293,2.528 -2.277,2.535 -2.262,2.544 -2.248,2.552 -2.234,2.562 -2.22,2.572 -2.208,2.583 -2.195,2.595 -2.183,2.608 -2.172,2.62 -2.162,2.634 -2.152,2.648 -2.144,2.662 -2.135,2.677 -2.128,2.693 -2.122,2.709 -2.116,2.725 -2.111,2.741 -2.107,2.757 -2.104,2.774 -2.102,2.791 -2.1,2.808 -2.1,2.825 -2.1,3.025 -2.1,3.042 -2.102,3.059 -2.104,3.076 -2.107,3.093 -2.111,3.109 -2.116,3.125 -2.122,3.141 -2.128,3.157 -2.135,3.173 -2.144,3.187 -2.152,3.202 -2.162,3.216 -2.172,3.23 -2.183,3.242 -2.195,3.255 -2.208,3.267 -2.22,3.278 -2.234,3.288 -2.248,3.298 -2.262,3.306 -2.277,3.315 -2.293,3.322 -2.309,3.328 -2.325,3.334 -2.341,3.339 -2.357,3.343 -2.374,3.346 -2.391,3.348 -2.408,3.35
Top Overlay:
  circle w0.2: c-1.25,4.14 r0.1
  lines w0.127: -3.75,-1.375 -3.75,-1.525 3.75,-1.525 3.75,-1.375 ; -3.75,1.225 -3.75,2.825 -3.3,2.825 ; 3.3,2.825 3.75,2.825 3.75,1.225
Top Paste:
  drawing of 8 lines, arcs and shapes, not listed
Bottom Paste:
  drawing of 8 lines, arcs and shapes, not listed
Top Solder:
  region: 2.502,0.975 4.8,0.975 4.8,-1.128 2.502,-1.128
  region: -4.801,0.975 -2.5,0.975 -2.5,-1.126 -4.801,-1.126
  region: 1.802,3.65 3.05,3.65 3.05,2.2 1.802,2.2
  region: -3.051,3.65 -1.8,3.65 -1.8,2.2 -3.051,2.2
Bottom Solder:
  region: 2.502,0.975 4.8,0.975 4.8,-1.128 2.502,-1.128
  region: -4.801,0.975 -2.5,0.975 -2.5,-1.126 -4.801,-1.126
  region: 1.802,3.65 3.05,3.65 3.05,2.2 1.802,2.2
  region: -3.051,3.65 -1.8,3.65 -1.8,2.2 -3.051,2.2
Mechanical 1:
  lines w0: -3.925,-0.525 ccw(c-3.625,-0.525) -3.625,-0.825 -3.4,-0.825 ccw(c-3.4,-0.525) -3.1,-0.525 -3.1,0.375 ccw(c-3.4,0.375) -3.4,0.675 -3.625,0.675 ccw(c-3.625,0.375) -3.925,0.375 -3.925,-0.525 ; -2.75,2.825 ccw(c-2.425,2.825) -2.425,2.5 ccw(c-2.425,2.825) -2.1,2.825 -2.1,3.025 ccw(c-2.425,3.025) -2.425,3.35 ccw(c-2.425,3.025) -2.75,3.025 -2.75,2.825 ; 2.1,2.825 ccw(c2.425,2.825) 2.425,2.5 ccw(c2.425,2.825) 2.75,2.825 2.75,3.025 ccw(c2.425,3.025) 2.425,3.35 ccw(c2.425,3.025) 2.1,3.025 2.1,2.825 ; 3.1,-0.525 ccw(c3.4,-0.525) 3.4,-0.825 3.625,-0.825 ccw(c3.625,-0.525) 3.925,-0.525 3.925,0.375 ccw(c3.625,0.375) 3.625,0.675 3.4,0.675 ccw(c3.4,0.375) 3.1,0.375 3.1,-0.525
Mechanical 4:
  circle w0.2: c-1.25,4.14 r0.1
  circle w0.2: c-1.25,4.14 r0.1
  lines w0.127: -4,-2.825 -4,-1.525 -4,-2.825 ; -4,-2.825 4,-2.825 ; -4,-2.825 4,-2.825 ; -3.75,-1.525 -5.75,-1.525 -3.75,-1.525 ; -3.75,-1.525 3.75,-1.525 ; -3.75,-1.525 -3.75,2.825 ; -3.75,-1.525 3.75,-1.525 ; -3.75,-1.525 -3.75,2.825 ; -3.75,2.825 3.75,2.825 ; -3.75,2.825 3.75,2.825 ; 3.75,-1.525 5.75,-1.525 3.75,-1.525 ; 3.75,-1.525 3.75,2.825 ; 3.75,-1.525 3.75,2.825 ; 4,-2.825 4,-1.525 4,-2.825
  text "PCB END" at 6,-1.65 h1.88
  text "PCB END" at 6,-1.65 h1.88
Mechanical 16:
  lines w0.05: -4.95,-1.275 -4.25,-1.275 -4.25,-3.075 4.25,-3.075 4.25,-1.275 4.95,-1.275 4.95,1.125 4,1.125 4,3.8 -4,3.8 -4,1.125 -4.95,1.125 -4.95,-1.275
3D body "ZX62D-B-5P8--3DModel-STEP-56544.STEP": height 2.78, standoff -0.72, extent -4.046,-2.696 4.047,3.104

## QFN40 [mm]
pads (21):
  rrect25% 0.84x0.27 smd: 1(-1.935,1) 2(-1.935,0.5) 3(-1.935,0) 4(-1.935,-0.5) 5(-1.935,-1) 11(1.935,-1) 12(1.935,-0.5) 13(1.935,0) 14(1.935,0.5) 15(1.935,1)
  rrect25% 0.27x0.84 smd: 6(-1,-1.935) 7(-0.5,-1.935) 8(0,-1.935) 9(0.5,-1.935) 10(1,-1.935) 16(1,1.935) 17(0.5,1.935) 18(0,1.935) 19(-0.5,1.935) 20(-1,1.935)
  rect 2x2 smd paste-2: 21(0,0)
Top Overlay:
  circle w0.2: c-2.975,1 r0.1
  lines w0.127: -2,-1.455 -2,-2 -1.455,-2 ; -2,1.455 -2,2 -1.455,2 ; 1.455,-2 2,-2 2,-1.455 ; 1.455,2 2,2 2,1.455
Top Paste:
  region: 0.63,-0.63 -0.63,-0.63 -0.63,0.63 0.63,0.63
Mechanical 13:
  circle w0.2: c-2.975,1 r0.1
  lines w0.127: -2,-2 2,-2 2,2 -2,2 -2,-2
Mechanical 15:
  lines w0.05: -2.605,-2.605 2.605,-2.605 2.605,2.605 -2.605,2.605 -2.605,-2.605
3D body "FT231XQ-R--3DModel-STEP-56544.STEP": height 0.75, standoff -0.05, extent -2,-2 2,2

## SOD-323 [mm]
pads (2):
  rect 0.63x0.83 smd: A(1.15,0) C(-1.15,0)
Top Overlay:
  lines w0.203: -0.9,-0.65 -0.5,-0.65 ; -0.9,0.65 -0.5,0.65 ; 0.9,-0.65 -0.5,-0.65 ; 0.9,0.65 -0.5,0.65 ; -0.5,-0.65 -0.5,0.65
3D body "SOD-323.STEP": height 1.13, standoff -0.02, extent -1.325,-0.749 1.375,0.698

## SOD-523 [mil]
pads (2):
  rect 20x14 smd paste+0 mask+0: A(-31.5,0) C(31.5,0)
Top Overlay:
  lines w8: -40.35,-20.67 14.76,-20.67 ; -40.35,20.67 14.76,20.67 ; 30.51,-20.67 14.76,-20.67 ; 30.51,20.67 14.76,20.67 ; 14.76,-20.67 14.76,20.67
Mechanical 5:
  region: 49,-25 -49,-25 -49,25 49,25
Mechanical 13:
  lines w1: -25.5,-8.75 -16.75,-17.5 ; -25.5,8.75 -16.75,17.5 ; -33.5,-7 -25.5,-7 -25.5,7 -33.5,7 -33.5,-7 ; -25.5,-17.5 -25.5,17.5 25.5,17.5 25.5,-17.5 -25.5,-17.5 ; 25.5,-7 33.5,-7 33.5,7 25.5,7 25.5,-7
  text "*" at -28,-25 h50
3D body: height 10, standoff 0, extent 0,0 10,10
3D body "SOD-523_ONS.step": height 18.27, standoff 0, extent -33.5,-17.47 33.51,17.49

## SOT-23-3 [mil]
pads (3):
  rect 52x22 smd: 1(-40,40) 2(-40,-40) 3(40,0)
Top Overlay:
  lines w2: -12,57 ccw(c0,57) 12,57 ; -50,-57 -50,57 50,57 50,-57 -50,-57
3D body "BZX84C3V3-7-F--3DModel-STEP-56544.STEP": height 44.65, standoff -2.59, extent -47.24,-57.09 47.25,57.09

## SOT-23-5 [mm]
pads (5):
  rect 1.1x0.65 smd paste-0.102 mask+0.051: 1(-1.2,0.95) 2(-1.2,0) 3(-1.2,-0.95) 4(1.2,-0.95) 5(1.2,0.95)
Top Overlay:
  lines w0.2: -2.032,-1.55 2.032,-1.55 2.032,1.55 -2.032,1.55 -2.032,-1.55
3D body "DBV0005A.stp": height 1.2, standoff 0, extent -1.4,-1.45 1.4,1.45
3D body: height 0.25, standoff 0, extent 0,0 0.254,0.254

## SOT-223 [mm]
pads (4):
  rect 0.851x1.761 smd paste+0 mask+0: 1(-2.3,-3.025) 2(0,-3.025) 3(2.3,-3.025)
  rect 3.151x1.761 smd paste+0 mask+0: 2(0,3.025)
Top Overlay:
  circle w0.152: c-4.545,-3.55 r0.127
  lines w0.152: -2.953,-1.902 -3.402,-1.902 -3.402,1.902 -1.803,1.902 ; -1.647,-1.902 -0.653,-1.902 ; 0.653,-1.902 1.647,-1.902 ; 1.803,1.902 3.402,1.902 3.402,-1.902 2.953,-1.902
3D body: height 0.25, standoff 0, extent 0,0 0.254,0.254
3D body "SOT-223_DIO.step": height 1.65, standoff 0, extent -3.275,-3.677 3.275,3.423

## SOT-323 [mil]
pads (3):
  rect 46x18 smd: 1(-37,26) 2(-37,-26) 3(37,0)
Top Overlay:
  lines w2: -11,39 ccw(c0.81,39) 12.62,39 ; -41,-39 -41,39 41,39 41,-39 -41,-39
3D body "BAT54SW,115--3DModel-STEP-56544.STEP": height 41.78, standoff -1.53, extent -41.33,-39.37 41.34,39.37